# Altium schematic symbol library TTL_to_RS485_Conv.SchLib: 1 symbol
Pins are listed as number, name and electrical type; pins without a type are passive.

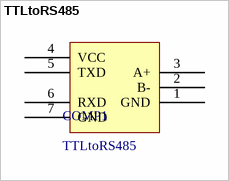
[diagram p0: symbol TTLtoRS485]

## TTLtoRS485
designator COMP1
footprint PCBComponent_1
pins: 1 GND, 2 B-, 3 A+, 4 VCC, 5 TXD, 6 RXD, 7 GND